# Altium integrated library 503398-1892.IntLib: 1 symbol
Pins are listed as number, name and electrical type; pins without a type are passive.

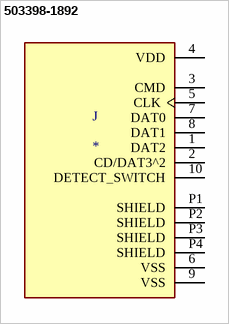
[diagram p0: symbol 503398-1892]

## 503398-1892
designator J
9 _8 + 1_ Position Card Connector microSDâ„¢ Surface Mount, Right Angle Gold; MP: 5033981892; MF: Molex; SnapEDA_Link: https://www.snapeda.com/parts/5033981892/Molex/view-part/1614473/?ref=snap; Digi-Key_Part_Number: WM11190CT-ND; Digi-Key_Purchase_URL: https://www.digikey.com/product-detail/en/molex/5033981892/WM11190CT-ND/5230912?utm_source=snapeda&utm_medium=aggregator&utm_campaign=symbol; Value: *; Package: None
footprint MOLEX_503398-1892
pins: 1 DAT2, 2 CD/DAT3^2, 3 CMD, 4 VDD (power), 5 CLK, 6 VSS (power), 7 DAT0, 8 DAT1, 9 VSS (power), 10 DETECT_SWITCH, P1 SHIELD, P2 SHIELD, P3 SHIELD, P4 SHIELD